# Altium integrated library BMP388.IntLib: 1 symbol
Pins are listed as number, name and electrical type; pins without a type are passive.

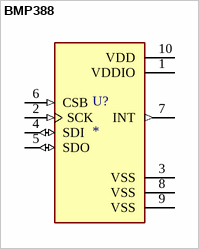
[diagram p0: symbol BMP388]

## BMP388
designator U?
Pressure Sensor 4.35PSI ~ 18.13PSI (30kPa ~ 125kPa) Absolute - - 10-WFLGA; MF: Bosch Sensortec; MP: BMP388; SnapEDA_Link: https://www.snapeda.com/parts/BMP388/Bosch/view-part/?ref=snap; Package: WFLGA-10 Bosch Tools; Value: *; Check_prices: https://www.snapeda.com/parts/BMP388/Bosch/view-part/?ref=eda
footprint XDCR_BMP388
pins: 1 VDDIO (power), 2 SCK (in), 3 VSS (power), 4 SDI (io), 5 SDO (io), 6 CSB (in), 7 INT (out), 8 VSS (power), 9 VSS (power), 10 VDD (power)